# EAGLE library part LEDCLOCK (library ScottSilver)
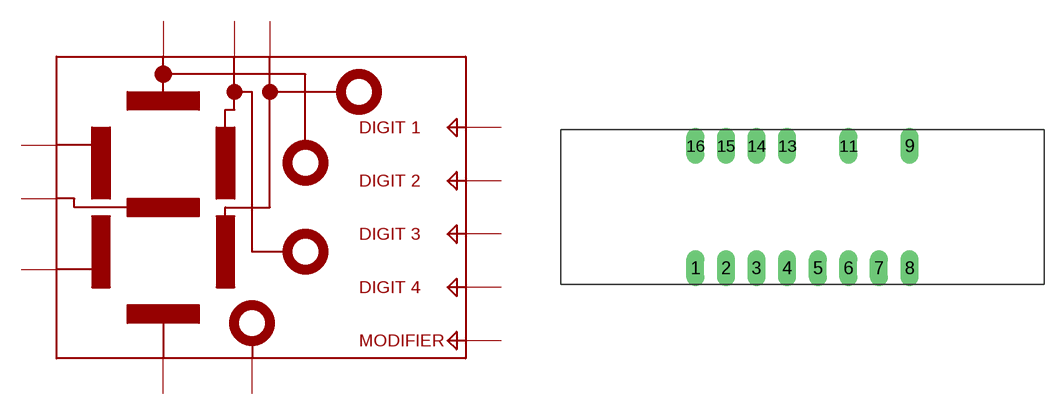
[diagram p8: symbol with the pads of LEDCLOCK; footprint LEDCLOCK]

Designator prefix -

## LEDCLOCK  [LEDCLOCK]
1  DIGIT1
2  DIGIT2
3  D
4  MOD
5  E
6  DIGIT3
7  DP
8  DIGIT4
11  F
13  C
14  A
15  G
16  B

## Footprint LEDCLOCK (pad centres in mm)
drill 1 long: 1 -8.89,-5.08; 2 -6.35,-5.08; 3 -3.81,-5.08; 4 -1.27,-5.08; 5 1.27,-5.08; 6 3.81,-5.08; 7 6.35,-5.08; 8 8.89,-5.08; 9 8.89,5.08; 11 3.81,5.08; 13 -1.27,5.08; 14 -3.81,5.08; 15 -6.35,5.08; 16 -8.89,5.08